# EAGLE library part 5V_BUCK_REGULATOR (library VoltageReg)
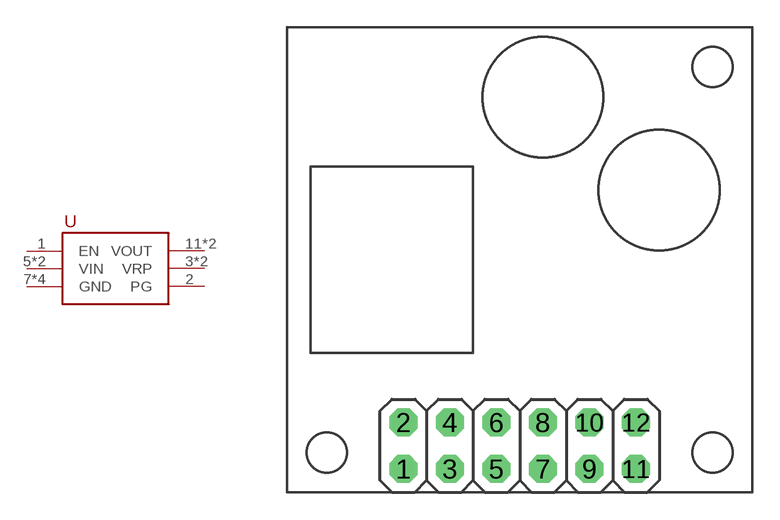
[diagram p1: symbol with the pads of 2X06; footprint 2X06]

Designator prefix -

## 5V_BUCK_REGULATOR  [2X06]
1  EN
2  PG
3  VRP
4  VRP
5  VIN
6  VIN
7  GND
8  GND
9  GND
10  GND
11  VOUT
12  VOUT

## Footprint 2X06 (pad centres in mm)
PIN HEADER
drill 1.016 octagon: 1 -6.35,1.27; 2 -6.35,3.81; 3 -3.81,1.27; 4 -3.81,3.81; 5 -1.27,1.27; 6 -1.27,3.81; 7 1.27,1.27; 8 1.27,3.81; 9 3.81,1.27; 10 3.81,3.81; 11 6.35,1.27; 12 6.35,3.81